# Altium footprint library LIB_PCB_Main.PcbLib: 55 footprints (part 4 of 4)
Each footprint in its own frame and in the unit in brackets; x right, y up, seen from the top. Pads: shape width x height; smd on the part's side, far side on the other; paste and mask are expansions set on the pad; w line width, h text height; cw(c..) or ccw(c..) is an arc to the next point about the centre after c.
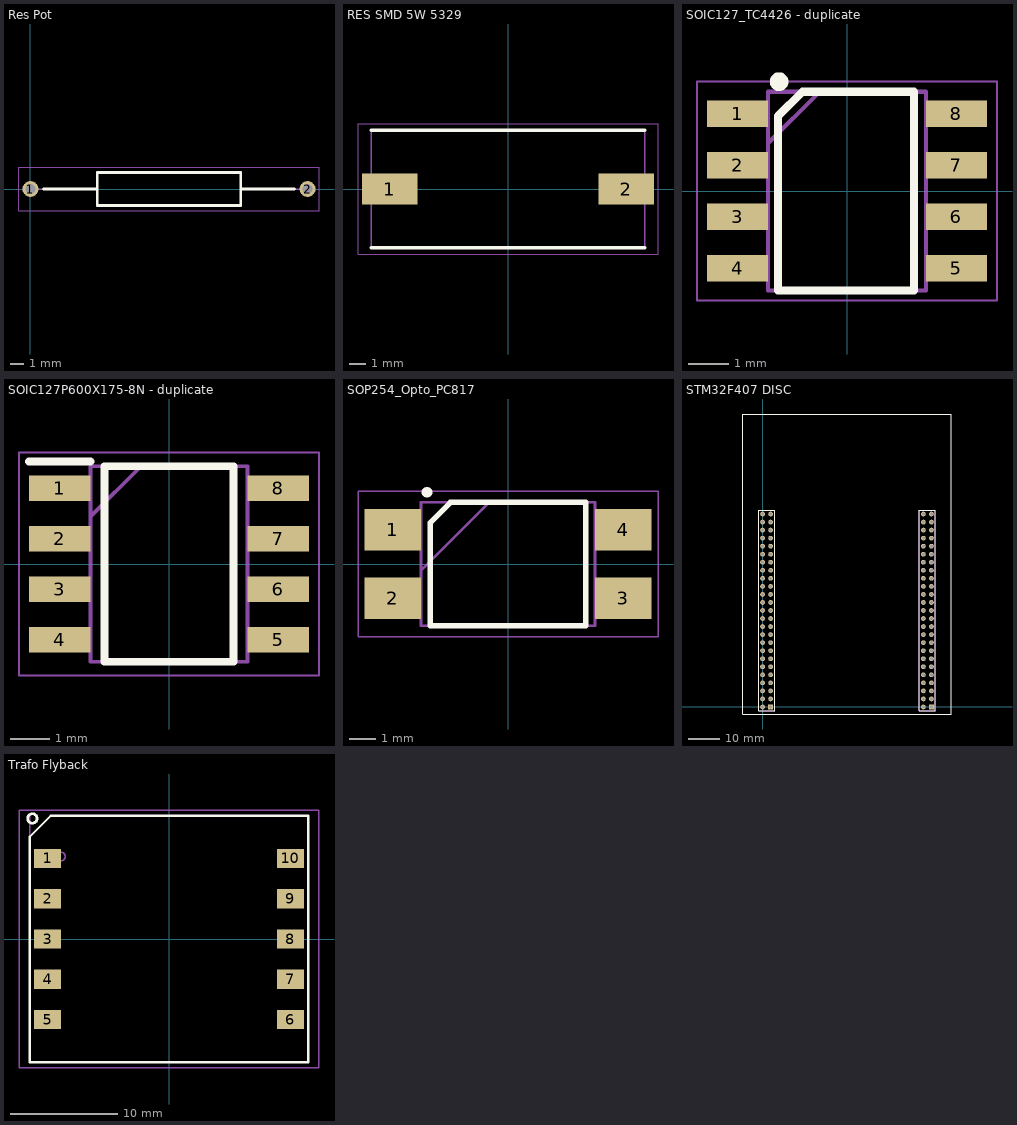
[diagram p3: the footprints below, top view; thin cyan lines are the x and y axes]

## Res Pot [mm] "FEI Resistor POT 3k biribinha"
pads (2):
  round 1.15 hole 0.75: 1(0,0) 2(19.9,0)
Top Overlay:
  lines w0.2: 0.925,0 4.795,0 ; 15.105,0 18.975,0 ; 4.795,-1.195 4.795,1.195 15.105,1.195 15.105,-1.195 4.795,-1.195
Mechanical 13:
  lines w0.1: 0,0 4.795,0 ; 15.105,0 19.9,0 ; 4.795,-1.195 4.795,1.195 15.105,1.195 15.105,-1.195 4.795,-1.195
Mechanical 15:
  lines w0.05: -0.825,-1.545 -0.825,1.545 20.725,1.545 20.725,-1.545 -0.825,-1.545
3D body "CW0014K700JE12.stp": height 3.18, standoff -3.18, extent -0.277,-1.585 20.15,1.585

## RES SMD 5W 5329 [mm] "RESM17073X710N"
pads (2):
  rect 3.45x1.9 smd: 1(-7.35,0) 2(7.35,0)
Top Overlay:
  lines w0.2: -8.5,-3.65 8.5,-3.65 ; -8.5,3.65 8.5,3.65
Mechanical 13:
  lines w0.1: -8.5,-3.65 8.5,-3.65 8.5,3.65 -8.5,3.65 -8.5,-3.65
Mechanical 15:
  lines w0.05: -9.325,-4.05 9.325,-4.05 9.325,4.05 -9.325,4.05 -9.325,-4.05
3D body "SMW52R2JT.stp": height 7.1, standoff 0, extent -8.5,-3.65 8.5,3.65

## SOIC127_TC4426 - duplicate [mm] "TC4426"
pads (8):
  rect 1.5x0.65 smd: 1(-2.7,1.905) 2(-2.7,0.635) 3(-2.7,-0.635) 4(-2.7,-1.905) 5(2.7,-1.905) 6(2.7,-0.635) 7(2.7,0.635) 8(2.7,1.905)
Top Overlay:
  circle w0.254: c-1.675,2.7 r0.103
  lines w0.2: -1.7,-2.45 -1.7,1.85 -1.1,2.45 1.65,2.45 1.65,-2.45 -1.7,-2.45
Mechanical 13:
  lines w0.1: -1.95,1.18 -0.68,2.45 ; -1.95,-2.45 -1.95,2.45 1.95,2.45 1.95,-2.45 -1.95,-2.45
Mechanical 15:
  lines w0.05: -3.7,-2.7 -3.7,2.7 3.7,2.7 3.7,-2.7 -3.7,-2.7
3D body "TC4426EOA.stp": height 1.75, standoff 0, extent -3,-2.45 3,2.45

## SOIC127P600X175-8N - duplicate [mm]
pads (8):
  rect 1.55x0.65 smd: 1(-2.75,1.905) 2(-2.75,0.635) 3(-2.75,-0.635) 4(-2.75,-1.905) 5(2.75,-1.905) 6(2.75,-0.635) 7(2.75,0.635) 8(2.75,1.905)
Top Overlay:
  lines w0.2: -3.525,2.58 -1.975,2.58 ; -1.625,-2.46 1.625,-2.46 1.625,2.46 -1.625,2.46 -1.625,-2.46
Mechanical 13:
  lines w0.1: -1.975,1.19 -0.705,2.46 ; -1.975,-2.46 1.975,-2.46 1.975,2.46 -1.975,2.46 -1.975,-2.46
Mechanical 15:
  lines w0.05: -3.775,-2.81 3.775,-2.81 3.775,2.81 -3.775,2.81 -3.775,-2.81
3D body "LM358AMX.stp": height 1.75, standoff 0, extent -3,-2.46 3,2.46

## SOP254_Opto_PC817 [mm] "PC817X1NIP1B"
pads (4):
  rect 2.1x1.55 smd: 1(-4.3,1.27) 2(-4.3,-1.27) 3(4.3,-1.27) 4(4.3,1.27)
Top Overlay:
  lines w0.2: -2.9,-2.3 2.9,-2.3 2.9,2.3 -2.15,2.3 -2.9,1.55 -2.9,-2.3
  lines w0.4: -3.025,2.675 -3.025,2.675
Mechanical 13:
  lines w0.1: -3.25,-0.24 -0.71,2.3 ; -3.25,-2.3 3.25,-2.3 3.25,2.3 -3.25,2.3 -3.25,-2.3
Mechanical 15:
  lines w0.05: -5.6,-2.725 5.6,-2.725 5.6,2.725 -5.6,2.725 -5.6,-2.725
3D body "PC817X1NIP1B.stp": height 4.2, standoff 0, extent -4.8,-2.3 4.8,2.3

## STM32F407 DISC [mm]
pads (100):
  rect 1.5x1.5 hole 0.9: 1.1(2.54,0) 2.1(53.34,0)
  round 1.5 hole 0.9: 1.2(0,0) 1.3(2.54,2.54) 1.4(0,2.54) 1.5(2.54,5.08) 1.6(0,5.08) 1.7(2.54,7.62) 1.8(0,7.62) 1.9(2.54,10.16) 1.10(0,10.16) 1.11(2.54,12.7) 1.12(0,12.7) 1.13(2.54,15.24) 1.14(0,15.24) 1.15(2.54,17.78) 1.16(0,17.78) 1.17(2.54,20.32) 1.18(0,20.32) 1.19(2.54,22.86) 1.20(0,22.86) 1.21(2.54,25.4) 1.22(0,25.4) 1.23(2.54,27.94) 1.24(0,27.94) 1.25(2.54,30.48) 1.26(0,30.48) 1.27(2.54,33.02) 1.28(0,33.02) 1.29(2.54,35.56) 1.30(0,35.56) 1.31(2.54,38.1) 1.32(0,38.1) 1.33(2.54,40.64) 1.34(0,40.64) 1.35(2.54,43.18) 1.36(0,43.18) 1.37(2.54,45.72) 1.38(0,45.72) 1.39(2.54,48.26) 1.40(0,48.26) 1.41(2.54,50.8) 1.42(0,50.8) 1.43(2.54,53.34) 1.44(0,53.34) 1.45(2.54,55.88) 1.46(0,55.88) 1.47(2.54,58.42) 1.48(0,58.42) 1.49(2.54,60.96) 1.50(0,60.96) 2.2(50.8,0) 2.3(53.34,2.54) 2.4(50.8,2.54) 2.5(53.34,5.08) 2.6(50.8,5.08) 2.7(53.34,7.62) 2.8(50.8,7.62) 2.9(53.34,10.16) 2.10(50.8,10.16) 2.11(53.34,12.7) 2.12(50.8,12.7) 2.13(53.34,15.24) 2.14(50.8,15.24) 2.15(53.34,17.78) 2.16(50.8,17.78) 2.17(53.34,20.32) 2.18(50.8,20.32) 2.19(53.34,22.86) 2.20(50.8,22.86) 2.21(53.34,25.4) 2.22(50.8,25.4) 2.23(53.34,27.94) 2.24(50.8,27.94) 2.25(53.34,30.48) 2.26(50.8,30.48) 2.27(53.34,33.02) 2.28(50.8,33.02) 2.29(53.34,35.56) 2.30(50.8,35.56) 2.31(53.34,38.1) 2.32(50.8,38.1) 2.33(53.34,40.64) 2.34(50.8,40.64) 2.35(53.34,43.18) 2.36(50.8,43.18) 2.37(53.34,45.72) 2.38(50.8,45.72) 2.39(53.34,48.26) 2.40(50.8,48.26) 2.41(53.34,50.8) 2.42(50.8,50.8) 2.43(53.34,53.34) 2.44(50.8,53.34) 2.45(53.34,55.88) 2.46(50.8,55.88) 2.47(53.34,58.42) 2.48(50.8,58.42) 2.49(53.34,60.96) 2.50(50.8,60.96)
Top Overlay:
  lines w0.2: -6.33,92.56 59.67,92.56 59.67,-2.22 -6.33,-2.22 -6.33,92.56 ; -6.33,92.56 -6.33,92.56 ; -1.27,-1.27 -1.27,62.23 3.81,62.23 3.81,-1.27 -1.27,-1.27 ; 49.53,-1.27 49.53,62.23 54.61,62.23 54.61,-1.27 49.53,-1.27
Mechanical 15:
  lines w0.05: -1.27,-1.27 3.81,-1.27 3.81,62.23 -1.26,62.23 -1.27,62.22 -1.27,62.23 -1.27,-1.27 ; 49.53,-1.27 54.61,-1.27 54.61,62.23 49.53,62.23 49.53,-1.27

## Trafo Flyback [mm] "750032051"
pads (10):
  rect 2.5x1.8 smd: 1(-11.33,7.52) 2(-11.33,3.76) 3(-11.33,0) 4(-11.33,-3.76) 5(-11.33,-7.52) 6(11.33,-7.52) 7(11.33,-3.76) 8(11.33,0) 9(11.33,3.76) 10(11.33,7.52)
Top Overlay:
  circle w0.254: c-12.75,11.25 r0.443
  lines w0.127: -13,-11.5 13,-11.5
  lines w0.2: -13,-11.5 13,-11.5 13,11.5 -11.05,11.5 -13,9.55 -13,-11.5
Mechanical 13:
  circle w0.127: c-10.1,7.7 r0.412
  lines w0.127: -13,-11.5 -13,11.5 ; 13,-11.5 13,11.5
Mechanical 15:
  lines w0.127: -14,-12 -14,12 14,12 14,-12 -14,-12
3D body "Trafo Flyback.STEP": height 11.48, standoff 0, extent -14.77,-11.558 14.313,11.556